# EAGLE library part PSRDA05-6 (library Traficon)
DIODE ARRAY (ASD)
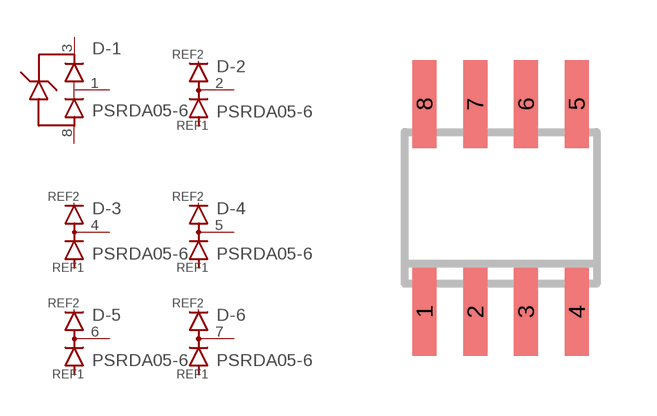
[diagram p85: symbol with the pads of SO08; footprint SO08]

Designator prefix D; gates -3=D-2-1 -4=D-2-1 -2=D-2-1 -5=D-2-1 -6=D-2-1 -1=REF

## PSRDA05-6  [SO08]
1  -1:IO
2  -2:K  pas
3  -1:VREF  pas
4  -3:K  pas
5  -4:K  pas
6  -5:K  pas
7  -6:K  pas
8  -1:GND  pas

## Footprint SO08 (pad centres in mm)
SMALL OUTLINE INTEGRATED CIRCUIT body 3.9 mm/JEDEC MS-012AA
smd 0.6 x 2.2: 1 -1.905,-2.6; 2 -0.635,-2.6; 3 0.635,-2.6; 4 1.905,-2.6; 5 1.905,2.6; 6 0.635,2.6; 7 -0.635,2.6; 8 -1.905,2.6